# Altium footprint library DDS1.PcbLib: 136 footprints (part 9 of 9)
Each footprint in its own frame and in the unit in brackets; x right, y up, seen from the top. Pads: shape width x height; smd on the part's side, far side on the other; paste and mask are expansions set on the pad; w line width, h text height; cw(c..) or ccw(c..) is an arc to the next point about the centre after c.
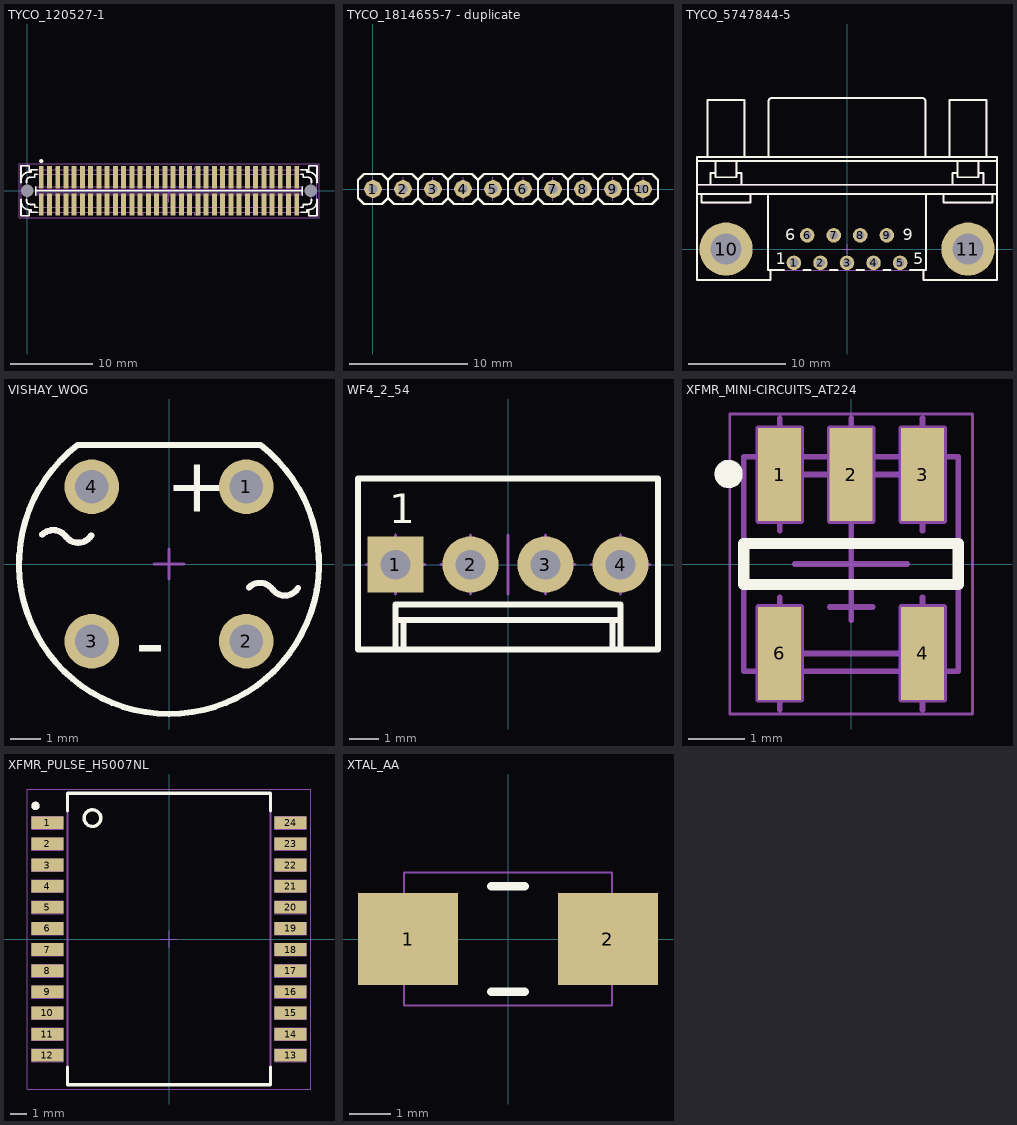
[diagram p8: the footprints below, top view; thin cyan lines are the x and y axes]

## TYCO_120527-1 [mm] "1mm Centerline, FH (IEEE 1386) Surface Mount, Stacking Board-to-Board Male Connectors"
height 8.45
pads (66):
  rect 0.6x2.7 smd: 1(1.7,1.65) 2(1.7,-1.65) 3(2.7,1.65) 4(2.7,-1.65) 5(3.7,1.65) 6(3.7,-1.65) 7(4.7,1.65) 8(4.7,-1.65) 9(5.7,1.65) 10(5.7,-1.65) 11(6.7,1.65) 12(6.7,-1.65) 13(7.7,1.65) 14(7.7,-1.65) 15(8.7,1.65) 16(8.7,-1.65) 17(9.7,1.65) 18(9.7,-1.65) 19(10.7,1.65) 20(10.7,-1.65) 21(11.7,1.65) 22(11.7,-1.65) 23(12.7,1.65) 24(12.7,-1.65) 25(13.7,1.65) 26(13.7,-1.65) 27(14.7,1.65) 28(14.7,-1.65) 29(15.7,1.65) 30(15.7,-1.65) 31(16.7,1.65) 32(16.7,-1.65) 33(17.7,1.65) 34(17.7,-1.65) 35(18.7,1.65) 36(18.7,-1.65) 37(19.7,1.65) 38(19.7,-1.65) 39(20.7,1.65) 40(20.7,-1.65) 41(21.7,1.65) 42(21.7,-1.65) 43(22.7,1.65) 44(22.7,-1.65) 45(23.7,1.65) 46(23.7,-1.65) 47(24.7,1.65) 48(24.7,-1.65) 49(25.7,1.65) 50(25.7,-1.65) 51(26.7,1.65) 52(26.7,-1.65) 53(27.7,1.65) 54(27.7,-1.65) 55(28.7,1.65) 56(28.7,-1.65) 57(29.7,1.65) 58(29.7,-1.65) 59(30.7,1.65) 60(30.7,-1.65) 61(31.7,1.65) 62(31.7,-1.65) 63(32.7,1.65) 64(32.7,-1.65)
  round 1 hole 1.5 unplated: 65(0,0) 66(34.4,0)
Top Overlay:
  circle w0.25: c1.7,3.6 r0.125
  lines w0.2: -0.75,-1.275 ccw(c0.25,-1.275) 0.25,-2.275 ; -0.75,-1 -0.75,-3.025 0.25,-3.025 0.25,-2.275 ; -0.75,1 -0.75,3.025 0.25,3.025 0.25,2.275 ; -0.75,1.275 cw(c0.25,1.275) 0.25,2.275 ; -0.09,-1 -0.09,-1.2 ccw(c0.36,-1.2) 0.36,-1.65 0.9,-1.65 0.9,-2 1.2,-2 ; -0.09,1 -0.09,1.2 cw(c0.36,1.2) 0.36,1.65 0.9,1.65 0.9,2 1.2,2 ; 1.05,-0.5 1.05,0.5 ; 1.05,0 33.35,0 ; 1.2,-2.575 0.45,-2.575 0.45,-2.275 0.25,-2.275 ; 1.2,2.575 0.45,2.575 0.45,2.275 0.25,2.275 ; 33.2,-2.575 33.95,-2.575 33.95,-2.275 34.15,-2.275 ; 33.2,-2 33.5,-2 33.5,-1.65 34.04,-1.65 ccw(c34.04,-1.2) 34.49,-1.2 34.49,-1 ; 33.2,2 33.5,2 33.5,1.65 34.04,1.65 cw(c34.04,1.2) 34.49,1.2 34.49,1 ; 33.2,2.575 33.95,2.575 33.95,2.275 34.15,2.275 ; 33.35,-0.5 33.35,0.5 ; 35.15,-1.275 cw(c34.15,-1.275) 34.15,-2.275 ; 35.15,-1 35.15,-3.025 34.15,-3.025 34.15,-2.275 ; 35.15,1 35.15,3.025 34.15,3.025 34.15,2.275 ; 35.15,1.275 ccw(c34.15,1.275) 34.15,2.275
Mechanical 14:
  drawing of 251 lines, arcs and shapes, not listed
Mechanical 15:
  lines w0.05: -1,-3.275 -1,3.275 35.4,3.275 35.4,-3.275 -1,-3.275
3D body "TYCO-AMP_120527-1.stp": height 8.38, standoff -0.73, extent -0.75,-3.025 35.15,3.025

## TYCO_1814655-7 - duplicate [mm] "10 Positions, Pitch 2.54mm, Width 2.54mm, Heigh 4.4mm, SIP Straight Socket"
height 4.4
pads (10):
  round 1.5 hole 0.8: 1(0,0) 2(2.54,0) 3(5.08,0) 4(7.62,0) 5(10.16,0) 6(12.7,0) 7(15.24,0) 8(17.78,0) 9(20.32,0) 10(22.86,0)
Top Overlay:
  lines w0.2: 1.27,-0.77 1.27,0.77 ; 1.27,-0.77 1.77,-1.27 3.31,-1.27 3.81,-0.77 ; 1.27,-0.77 0.77,-1.27 -0.77,-1.27 -1.27,-0.77 -1.27,0.77 -0.77,1.27 0.77,1.27 1.27,0.77 ; 1.27,0.77 1.77,1.27 3.31,1.27 3.81,0.77 ; 3.81,-0.77 3.81,0.77 ; 3.81,-0.77 4.31,-1.27 5.85,-1.27 6.35,-0.77 ; 3.81,0.77 4.31,1.27 5.85,1.27 6.35,0.77 ; 6.35,-0.77 6.35,0.77 ; 6.35,-0.77 6.85,-1.27 8.39,-1.27 8.89,-0.77 ; 6.35,0.77 6.85,1.27 8.39,1.27 8.89,0.77 ; 8.89,-0.77 8.89,0.77 ; 8.89,-0.77 9.39,-1.27 10.93,-1.27 11.43,-0.77 ; 8.89,0.77 9.39,1.27 10.93,1.27 11.43,0.77 ; 11.43,-0.77 11.43,0.77 ; 11.43,-0.77 11.93,-1.27 13.47,-1.27 13.97,-0.77 ; 11.43,0.77 11.93,1.27 13.47,1.27 13.97,0.77 ; 13.97,-0.77 13.97,0.77 ; 13.97,-0.77 14.47,-1.27 16.01,-1.27 16.51,-0.77 ; 13.97,0.77 14.47,1.27 16.01,1.27 16.51,0.77 ; 16.51,-0.77 16.51,0.77 ; 16.51,-0.77 17.01,-1.27 18.55,-1.27 19.05,-0.77 ; 16.51,0.77 17.01,1.27 18.55,1.27 19.05,0.77 ; 19.05,-0.77 19.05,0.77 ; 19.05,-0.77 19.55,-1.27 21.09,-1.27 21.59,-0.77 ; 19.05,0.77 19.55,1.27 21.09,1.27 21.59,0.77 ; 21.59,-0.77 21.59,0.77 ; 21.59,-0.77 22.09,-1.27 23.63,-1.27 24.13,-0.77 24.13,0.77 23.63,1.27 22.09,1.27 21.59,0.77
Mechanical 8:
  lines w0.1: -1,0 0,0 ; 0,-1 0,0 ; 0,1 0,0 ; 1,0 0,0 ; 1.54,0 2.54,0 ; 2.54,-1 2.54,0 ; 2.54,1 2.54,0 ; 3.54,0 2.54,0 ; 4.08,0 5.08,0 ; 5.08,-1 5.08,0 ; 5.08,1 5.08,0 ; 6.08,0 5.08,0 ; 6.62,0 7.62,0 ; 7.62,-1 7.62,0 ; 7.62,1 7.62,0 ; 8.62,0 7.62,0 ; 9.16,0 10.16,0 ; 10.16,-1 10.16,0 ; 10.16,1 10.16,0 ; 11.16,0 10.16,0 ; 11.7,0 12.7,0 ; 12.7,-1 12.7,0 ; 12.7,1 12.7,0 ; 13.7,0 12.7,0 ; 14.24,0 15.24,0 ; 15.24,-1 15.24,0 ; 15.24,1 15.24,0 ; 16.24,0 15.24,0 ; 16.78,0 17.78,0 ; 17.78,-1 17.78,0 ; 17.78,1 17.78,0 ; 18.78,0 17.78,0 ; 19.32,0 20.32,0 ; 20.32,-1 20.32,0 ; 20.32,1 20.32,0 ; 21.32,0 20.32,0 ; 21.86,0 22.86,0 ; 22.86,-1 22.86,0 ; 22.86,1 22.86,0 ; 23.86,0 22.86,0
Mechanical 14:
  lines w0.1: 1.27,-0.77 1.27,0.77 ; 1.27,-0.77 1.77,-1.27 3.31,-1.27 3.81,-0.77 ; 1.27,-0.77 0.77,-1.27 -0.77,-1.27 -1.27,-0.77 -1.27,0.77 -0.77,1.27 0.77,1.27 1.27,0.77 ; 1.27,0.77 1.77,1.27 3.31,1.27 3.81,0.77 ; 3.81,-0.77 3.81,0.77 ; 3.81,-0.77 4.31,-1.27 5.85,-1.27 6.35,-0.77 ; 3.81,0.77 4.31,1.27 5.85,1.27 6.35,0.77 ; 6.35,-0.77 6.35,0.77 ; 6.35,-0.77 6.85,-1.27 8.39,-1.27 8.89,-0.77 ; 6.35,0.77 6.85,1.27 8.39,1.27 8.89,0.77 ; 8.89,-0.77 8.89,0.77 ; 8.89,-0.77 9.39,-1.27 10.93,-1.27 11.43,-0.77 ; 8.89,0.77 9.39,1.27 10.93,1.27 11.43,0.77 ; 11.43,-0.77 11.43,0.77 ; 11.43,-0.77 11.93,-1.27 13.47,-1.27 13.97,-0.77 ; 11.43,0.77 11.93,1.27 13.47,1.27 13.97,0.77 ; 13.97,-0.77 13.97,0.77 ; 13.97,-0.77 14.47,-1.27 16.01,-1.27 16.51,-0.77 ; 13.97,0.77 14.47,1.27 16.01,1.27 16.51,0.77 ; 16.51,-0.77 16.51,0.77 ; 16.51,-0.77 17.01,-1.27 18.55,-1.27 19.05,-0.77 ; 16.51,0.77 17.01,1.27 18.55,1.27 19.05,0.77 ; 19.05,-0.77 19.05,0.77 ; 19.05,-0.77 19.55,-1.27 21.09,-1.27 21.59,-0.77 ; 19.05,0.77 19.55,1.27 21.09,1.27 21.59,0.77 ; 21.59,-0.77 21.59,0.77 ; 21.59,-0.77 22.09,-1.27 23.63,-1.27 24.13,-0.77 24.13,0.77 23.63,1.27 22.09,1.27 21.59,0.77
3D body "TYCO_1814655-7.stp": height 4.4, standoff -2.9, extent -1.27,-1.27 24.13,1.27

## TYCO_5747844-5 [mm] "Right Angle 9 Female Contacts D-SUB Connector With PCB Mount Retention , Grounding Straps, and Fixed UNC 4-40 Female Screwlocks"
height 12.92
pads (11):
  round 1.5 hole 0.9: 1(-5.48,-1.422) 2(-2.74,-1.422) 3(0,-1.422) 4(2.74,-1.422) 5(5.48,-1.422) 6(-4.11,1.422) 7(-1.37,1.422) 8(1.37,1.422) 9(4.11,1.422)
  round 5.5 hole 3.2 unplated: 10(-12.495,0)
  round 5.5 hole 3.2: 11(12.495,0)
Top Overlay:
  lines w0.2: -15.494,5.679 15.494,5.679 ; -15.494,6.645 15.494,6.645 ; -15.494,9.108 15.494,9.108 ; -15.011,5.679 -15.011,4.79 -9.982,4.79 -9.982,5.679 ; -14.402,9.525 -14.402,15.408 -10.592,15.408 -10.592,9.525 ; -14.084,6.645 -14.084,7.838 -13.576,7.838 ; -13.576,9.108 -13.576,7.422 -11.417,7.422 -11.417,9.108 ; -11.417,7.838 -10.909,7.838 -10.909,6.645 ; -8.153,5.679 -8.153,-2.169 -6.482,-2.169 ; -8.1,9.525 -8.1,15.296 cw(c-7.8,15.296) -7.8,15.596 7.8,15.596 cw(c7.8,15.296) 8.1,15.296 8.1,9.525 ; -7.899,-2.169 -7.899,-3.185 -15.494,-3.185 -15.494,9.525 15.494,9.525 15.494,-3.185 7.899,-3.185 7.899,-2.169 ; -4.478,-2.169 -3.742,-2.169 ; -1.738,-2.169 -1.002,-2.169 ; 1.002,-2.169 1.738,-2.169 ; 3.742,-2.169 4.478,-2.169 ; 6.482,-2.169 8.153,-2.169 8.153,5.679 ; 9.982,5.679 9.982,4.79 15.011,4.79 15.011,5.679 ; 10.592,9.525 10.592,15.408 14.402,15.408 14.402,9.525 ; 10.909,6.645 10.909,7.838 11.417,7.838 ; 11.417,9.108 11.417,7.422 13.576,7.422 13.576,9.108 ; 13.576,7.838 14.084,7.838 14.084,6.645
  text "9" at 5.75,0.925 h1.2
  text "1" at -7.35,-1.575 h1.2
  text "5" at 6.85,-1.575 h1.2
  text "6" at -6.375,0.925 h1.2
Mechanical 8:
  circle w0.1: c5.48,-1.422 r0.5
  circle w0.1: c4.11,1.422 r0.5
  circle w0.1: c-5.48,-1.422 r0.5
  circle w0.1: c-4.11,1.422 r0.5
  circle w0.1: c12.495,0 r1.6
  circle w0.1: c-12.495,0 r1.6
  lines w0.1: -12.995,0 -12.495,0 ; -12.495,-0.5 -12.495,0 ; -12.495,0.5 -12.495,0 ; -11.995,0 -12.495,0 ; -5.98,-1.422 -5.48,-1.422 ; -5.48,-1.922 -5.48,-1.422 ; -5.48,-0.922 -5.48,-1.422 ; -4.98,-1.422 -5.48,-1.422 ; -4.61,1.422 -4.11,1.422 ; -4.11,0.922 -4.11,1.422 ; -4.11,1.922 -4.11,1.422 ; -3.61,1.422 -4.11,1.422 ; -3.24,-1.422 -2.74,-1.422 ; -2.74,-1.922 -2.74,-1.422 ; -2.74,-0.922 -2.74,-1.422 ; -2.24,-1.422 -2.74,-1.422 ; -1.87,1.422 -1.37,1.422 ; -1.37,0.922 -1.37,1.422 ; -1.37,1.922 -1.37,1.422 ; -0.87,1.422 -1.37,1.422 ; -0.5,-1.422 0,-1.422 ; -0.5,0 0,0 ; 0,-1.922 0,-1.422 ; 0,-0.922 0,-1.422 ; 0,-0.5 0,0 ; 0,0.5 0,0 ; 0.5,-1.422 0,-1.422 ; 0.5,0 0,0 ; 0.87,1.422 1.37,1.422 ; 1.37,0.922 1.37,1.422 ; 1.37,1.922 1.37,1.422 ; 1.87,1.422 1.37,1.422 ; 2.24,-1.422 2.74,-1.422 ; 2.74,-1.922 2.74,-1.422 ; 2.74,-0.922 2.74,-1.422 ; 3.24,-1.422 2.74,-1.422 ; 3.61,1.422 4.11,1.422 ; 4.11,0.922 4.11,1.422 ; 4.11,1.922 4.11,1.422 ; 4.61,1.422 4.11,1.422 ; 4.98,-1.422 5.48,-1.422 ; 5.48,-1.922 5.48,-1.422 ; 5.48,-0.922 5.48,-1.422 ; 5.98,-1.422 5.48,-1.422 ; 11.995,0 12.495,0 ; 12.495,-0.5 12.495,0 ; 12.495,0.5 12.495,0 ; 12.995,0 12.495,0
Mechanical 14:
  circle w0.1: c12.497,0 r1.549
  circle w0.1: c12.497,0 r1.854
  circle w0.1: c-12.497,0 r1.549
  circle w0.1: c-12.497,0 r1.854
  lines w0.1: -15.494,5.679 15.494,5.679 ; -15.494,6.645 15.494,6.645 ; -15.494,9.108 15.494,9.108 ; -15.011,5.679 -15.011,4.79 -9.982,4.79 -9.982,5.679 ; -14.402,9.525 -14.402,15.408 -10.592,15.408 -10.592,9.525 ; -14.084,6.645 -14.084,7.838 -13.576,7.838 ; -13.576,9.108 -13.576,7.422 -11.417,7.422 -11.417,9.108 ; -11.417,7.838 -10.909,7.838 -10.909,6.645 ; -8.153,5.679 -8.153,-2.169 8.153,-2.169 8.153,5.679 ; -8.1,9.525 -8.1,15.296 cw(c-7.8,15.296) -7.8,15.596 7.8,15.596 cw(c7.8,15.296) 8.1,15.296 8.1,9.525 ; -7.899,-2.169 -7.899,-3.185 -15.494,-3.185 -15.494,9.525 15.494,9.525 15.494,-3.185 7.899,-3.185 7.899,-2.169 ; 9.982,5.679 9.982,4.79 15.011,4.79 15.011,5.679 ; 10.592,9.525 10.592,15.408 14.402,15.408 14.402,9.525 ; 10.909,6.645 10.909,7.838 11.417,7.838 ; 11.417,9.108 11.417,7.422 13.576,7.422 13.576,9.108 ; 13.576,7.838 14.084,7.838 14.084,6.645
  text "6" at -6.375,0.925 h1.2
  text "5" at 6.85,-1.575 h1.2
  text "1" at -7.35,-1.575 h1.2
  text "9" at 5.75,0.925 h1.2
3D body "TYCO_5747844-5.stp": height 12.55, standoff -3.26, extent -15.494,-3.185 15.494,15.71

## VISHAY_WOG [mm] "Bridge Rectifier, Body 9.35m x 8.33mm, VISHAY Case Type WOG"
height 5.6
pads (4):
  round 1.8 hole 1.1: 1(2.54,2.54) 2(2.54,-2.54) 3(-2.54,-2.54) 4(-2.54,2.54)
Top Overlay:
  lines w0.2: -4.165,0.963 cw(c-3.805,0.616) -3.39,0.895 ; -3.365,0.875 ccw(c-2.984,1.198) -2.555,0.941 ; 2.625,-0.772 cw(c2.985,-1.119) 3.4,-0.84 ; 3.425,-0.86 ccw(c3.806,-0.537) 4.235,-0.794 ; -3.003,3.91 ccw(c0,0) 3.003,3.91 -3.003,3.91
  text "+" at -0.1,1.72 h1.8
  text "-" at -1.105,-3.52 h2
Mechanical 8:
  lines w0.1: -3.04,-2.54 -2.54,-2.54 ; -3.04,2.54 -2.54,2.54 ; -2.54,-3.04 -2.54,-2.54 ; -2.54,-2.04 -2.54,-2.54 ; -2.54,2.04 -2.54,2.54 ; -2.54,3.04 -2.54,2.54 ; -2.04,-2.54 -2.54,-2.54 ; -2.04,2.54 -2.54,2.54 ; -0.5,0 0,0 ; 0,-0.5 0,0 ; 0,0.5 0,0 ; 0.5,0 0,0 ; 2.04,-2.54 2.54,-2.54 ; 2.04,2.54 2.54,2.54 ; 2.54,-3.04 2.54,-2.54 ; 2.54,-2.04 2.54,-2.54 ; 2.54,2.04 2.54,2.54 ; 2.54,3.04 2.54,2.54 ; 3.04,-2.54 2.54,-2.54 ; 3.04,2.54 2.54,2.54
Mechanical 14:
  lines w0.1: -3.003,3.91 ccw(c0,0) 3.003,3.91 -3.003,3.91
  lines w0.2: -4.165,0.963 cw(c-3.805,0.616) -3.39,0.895 ; -3.365,0.875 ccw(c-2.984,1.198) -2.555,0.941 ; 2.625,-0.772 cw(c2.985,-1.119) 3.4,-0.84 ; 3.425,-0.86 ccw(c3.806,-0.537) 4.235,-0.794
  text "+" at -0.1,1.72 h1.8
  text "-" at -1.105,-3.52 h2
3D body "VISHAY_WOG.stp": height 13.5, standoff -3.2, extent -4.928,-4.93 4.928,3.91

## WF4_2_54 [mm] "2.54mm (.100\") Pitch KK® Header, Single Row, Vertical, 4 Circuits"
height 11.7
pads (4):
  rect 1.9x1.9 hole 1: 1(-3.81,0)
  round 1.9 hole 1: 2(-1.27,0) 3(1.27,0) 4(3.81,0)
Top Overlay:
  lines w0.2: -3.81,-2.883 -3.81,-1.353 3.81,-1.353 3.81,-2.883 ; -3.81,-1.883 3.81,-1.883 ; -3.537,-2.883 -3.537,-1.883 ; 3.537,-2.883 3.537,-1.883 ; -5.08,-2.883 -5.08,2.918 5.08,2.918 5.08,-2.883 -5.08,-2.883
  text "1" at -4.02,1.395 h1
Mechanical 8:
  lines w0.1: -4.81,0 -3.81,0 ; -3.81,-1 -3.81,0 ; -3.81,1 -3.81,0 ; -2.81,0 -3.81,0 ; -2.27,0 -1.27,0 ; -1.27,-1 -1.27,0 ; -1.27,1 -1.27,0 ; 0,-1 0,0 0,1 ; 1.27,-1 1.27,0 ; 1.27,1 1.27,0 ; 2.27,0 1.27,0 ; 2.81,0 3.81,0 ; 3.81,-1 3.81,0 ; 3.81,1 3.81,0 ; 4.81,0 3.81,0
Mechanical 14:
  lines w0.1: -3.81,-2.883 -3.81,-1.353 3.81,-1.353 3.81,-2.883 ; -3.81,-1.883 3.81,-1.883 ; -3.537,-2.883 -3.537,-1.883 ; 3.537,-2.883 3.537,-1.883 ; -5.08,-2.883 -5.08,2.918 5.08,2.918 5.08,-2.883 -5.08,-2.883 ; -4.13,-0.318 -3.49,-0.318 -3.49,0.318 -4.13,0.318 -4.13,-0.318 ; -1.59,-0.318 -0.95,-0.318 -0.95,0.318 -1.59,0.318 -1.59,-0.318 ; 0.95,-0.318 1.59,-0.318 1.59,0.318 0.95,0.318 0.95,-0.318 ; 3.49,-0.318 4.13,-0.318 4.13,0.318 3.49,0.318 3.49,-0.318
  text "1" at -4.02,1.395 h1
3D body "MOLEX_22-27-2041.stp": height 11.7, standoff -3.56, extent -5.08,-2.883 5.08,2.917

## XFMR_MINI-CIRCUITS_AT224 [mm] "MINI-CIRCUITS RF Transformer, Case AT224 - Body 3.81X3.81mm"
height 3.81
pads (5):
  rect 0.76x1.65 smd: 1(-1.27,1.59) 2(0,1.59) 3(1.27,1.59) 4(1.27,-1.59) 6(-1.27,-1.59)
Top Overlay:
  circle w0.25: c-2.175,1.6 r0.125
  lines w0.2: -1.905,-0.365 -1.905,0.365 1.905,0.365 1.905,-0.365 -1.905,-0.365
Mechanical 8:
  lines w0.1: -1.27,-2.59 -1.27,-1.59 ; -1.27,-0.59 -1.27,-1.59 ; -1.27,0.59 -1.27,1.59 ; -1.27,2.59 -1.27,1.59 ; -1,0 0,0 ; -0.38,-0.765 0.38,-0.765 ; 0,-1 0,0 ; 0,0.59 0,1.59 0,2.59 ; 0,1 0,0 ; 1,0 0,0 ; 1.27,-2.59 1.27,-1.59 1.27,-0.59 ; 1.27,0.59 1.27,1.59 1.27,2.59 ; 1.65,-1.59 -1.27,-1.59 ; 1.65,1.59 -1.27,1.59 ; -1.65,-2.415 -1.65,-0.765 -0.89,-0.765 -0.89,-2.415 -1.65,-2.415 ; -1.65,0.765 -1.65,2.415 -0.89,2.415 -0.89,0.765 -1.65,0.765 ; -0.38,0.765 -0.38,2.415 0.38,2.415 0.38,0.765 -0.38,0.765 ; 0.89,-2.415 0.89,-0.765 1.65,-0.765 1.65,-2.415 0.89,-2.415 ; 0.89,0.765 0.89,2.415 1.65,2.415 1.65,0.765 0.89,0.765
Mechanical 14:
  circle w0.25: c-2.175,1.6 r0.125
  lines w0.1: -1.625,-1.905 -1.625,-1.145 -0.915,-1.145 -0.915,-1.905 ; -1.625,1.905 -1.625,1.145 -0.915,1.145 -0.915,1.905 ; -0.355,1.905 -0.355,1.145 0.355,1.145 0.355,1.905 ; 0.915,-1.905 0.915,-1.145 1.625,-1.145 1.625,-1.905 ; 0.915,1.905 0.915,1.145 1.625,1.145 1.625,1.905 ; -1.905,-1.905 -1.905,1.905 1.905,1.905 1.905,-1.905 -1.905,-1.905
Mechanical 15:
  lines w0.05: -2.155,-2.665 -2.155,2.665 2.155,2.665 2.155,-2.665 -2.155,-2.665
3D body "XFMR_MINI-CIRCUITS_AT224.stp": height 3.81, standoff 0, extent -1.905,-1.905 1.905,1.905

## XFMR_PULSE_H5007NL [mm] "10/100BASE-T Magnetics Modules, Body 12.2 x 17.53mm"
height 5.72
pads (24):
  rect 1.905x0.76 smd: 1(-7.302,6.985) 2(-7.302,5.715) 3(-7.302,4.445) 4(-7.302,3.175) 5(-7.302,1.905) 6(-7.302,0.635) 7(-7.302,-0.635) 8(-7.302,-1.905) 9(-7.302,-3.175) 10(-7.302,-4.445) 11(-7.302,-5.715) 12(-7.302,-6.985) 13(7.302,-6.985) 14(7.302,-5.715) 15(7.302,-4.445) 16(7.302,-3.175) 17(7.302,-1.905) 18(7.302,-0.635) 19(7.302,0.635) 20(7.302,1.905) 21(7.302,3.175) 22(7.302,4.445) 23(7.302,5.715) 24(7.302,6.985)
Top Overlay:
  circle w0.25: c-8.025,8 r0.125
  circle w0.2: c-4.6,7.265 r0.5
  lines w0.2: -6.1,-7.715 -6.1,-8.765 6.1,-8.765 6.1,-7.715 ; -6.1,7.715 -6.1,8.765 6.1,8.765 6.1,7.715
Mechanical 8:
  lines w0.05: -0.5,0 0,0 ; 0,-0.5 0,0 ; 0,0.5 0,0 ; 0.5,0 0,0 ; -8.255,-7.365 -8.255,-6.605 ; -8.255,-7.365 -7.302,-6.985 -8.255,-6.605 ; -8.255,-7.365 -6.35,-7.365 -6.35,-6.605 -8.255,-6.605 ; -8.255,-6.095 -8.255,-5.335 ; -8.255,-6.095 -7.302,-5.715 -8.255,-5.335 ; -8.255,-6.095 -6.35,-6.095 -6.35,-5.335 -8.255,-5.335 ; -8.255,-4.825 -8.255,-4.065 ; -8.255,-4.825 -7.302,-4.445 -8.255,-4.065 ; -8.255,-4.825 -6.35,-4.825 -6.35,-4.065 -8.255,-4.065 ; -8.255,-3.555 -8.255,-2.795 ; -8.255,-3.555 -7.302,-3.175 -8.255,-2.795 ; -8.255,-3.555 -6.35,-3.555 -6.35,-2.795 -8.255,-2.795 ; -8.255,-2.285 -8.255,-1.525 ; -8.255,-2.285 -7.302,-1.905 -8.255,-1.525 ; -8.255,-2.285 -6.35,-2.285 -6.35,-1.525 -8.255,-1.525 ; -8.255,-1.015 -8.255,-0.255 ; -8.255,-1.015 -7.302,-0.635 -8.255,-0.255 ; -8.255,-1.015 -6.35,-1.015 -6.35,-0.255 -8.255,-0.255 ; -8.255,0.255 -8.255,1.015 ; -8.255,0.255 -7.302,0.635 -8.255,1.015 ; -8.255,0.255 -6.35,0.255 -6.35,1.015 -8.255,1.015 ; -8.255,1.525 -8.255,2.285 ; -8.255,1.525 -7.302,1.905 -8.255,2.285 ; -8.255,1.525 -6.35,1.525 -6.35,2.285 -8.255,2.285 ; -8.255,2.795 -8.255,3.555 ; -8.255,2.795 -7.302,3.175 -8.255,3.555 ; -8.255,2.795 -6.35,2.795 -6.35,3.555 -8.255,3.555 ; -8.255,4.065 -8.255,4.825 ; -8.255,4.065 -7.302,4.445 -8.255,4.825 ; -8.255,4.065 -6.35,4.065 -6.35,4.825 -8.255,4.825 ; -8.255,5.335 -8.255,6.095 ; -8.255,5.335 -7.302,5.715 -8.255,6.095 ; -8.255,5.335 -6.35,5.335 -6.35,6.095 -8.255,6.095 ; -8.255,6.605 -8.255,7.365 ; -8.255,6.605 -7.302,6.985 -8.255,7.365 ; -8.255,6.605 -6.35,6.605 -6.35,7.365 -8.255,7.365 ; 8.255,-7.365 8.255,-6.605 ; 8.255,-7.365 6.35,-7.365 6.35,-6.605 8.255,-6.605 ; 8.255,-7.365 7.302,-6.985 8.255,-6.605 ; 8.255,-6.095 8.255,-5.335 ; 8.255,-6.095 6.35,-6.095 6.35,-5.335 8.255,-5.335 ; 8.255,-6.095 7.302,-5.715 8.255,-5.335 ; 8.255,-4.825 8.255,-4.065 ; 8.255,-4.825 6.35,-4.825 6.35,-4.065 8.255,-4.065 ; 8.255,-4.825 7.302,-4.445 8.255,-4.065 ; 8.255,-3.555 8.255,-2.795 ; 8.255,-3.555 6.35,-3.555 6.35,-2.795 8.255,-2.795 ; 8.255,-3.555 7.302,-3.175 8.255,-2.795 ; 8.255,-2.285 8.255,-1.525 ; 8.255,-2.285 6.35,-2.285 6.35,-1.525 8.255,-1.525 ; 8.255,-2.285 7.302,-1.905 8.255,-1.525 ; 8.255,-1.015 8.255,-0.255 ; 8.255,-1.015 6.35,-1.015 6.35,-0.255 8.255,-0.255 ; 8.255,-1.015 7.302,-0.635 8.255,-0.255 ; 8.255,0.255 8.255,1.015 ; 8.255,0.255 6.35,0.255 6.35,1.015 8.255,1.015 ; 8.255,0.255 7.302,0.635 8.255,1.015 ; 8.255,1.525 8.255,2.285 ; 8.255,1.525 6.35,1.525 6.35,2.285 8.255,2.285 ; 8.255,1.525 7.302,1.905 8.255,2.285 ; 8.255,2.795 8.255,3.555 ; 8.255,2.795 6.35,2.795 6.35,3.555 8.255,3.555 ; 8.255,2.795 7.302,3.175 8.255,3.555 ; 8.255,4.065 8.255,4.825 ; 8.255,4.065 6.35,4.065 6.35,4.825 8.255,4.825 ; 8.255,4.065 7.302,4.445 8.255,4.825 ; 8.255,5.335 8.255,6.095 ; 8.255,5.335 6.35,5.335 6.35,6.095 8.255,6.095 ; 8.255,5.335 7.302,5.715 8.255,6.095 ; 8.255,6.605 8.255,7.365 ; 8.255,6.605 6.35,6.605 6.35,7.365 8.255,7.365 ; 8.255,6.605 7.302,6.985 8.255,7.365
Mechanical 14:
  circle w0.25: c-8.025,8 r0.125
  circle w0.1: c-4.6,7.265 r0.5
  lines w0.1: -6.1,-8.765 6.1,-8.765 6.1,8.765 -6.1,8.765 -6.1,-8.765
Mechanical 15:
  lines w0.05: -8.505,-9.015 8.505,-9.015 8.505,9.015 -8.505,9.015 -8.505,-9.015
3D body "XFMR_PULSE_H5007NL.stp": height 5.72, standoff 0, extent -8,-8.765 8,8.765

## XTAL_AA [mm] "Resonator 5x3.mm 2pin"
height 1.3
pads (2):
  rect 2.4x2.2 smd: 1(-2.4,0) 2(2.4,0)
Top Overlay:
  lines w0.203: -0.4,-1.27 0.4,-1.27 ; -0.4,1.27 0.4,1.27
Mechanical 13:
  lines w0.051: -2.5,-1.6 2.5,-1.6 2.5,1.6 -2.5,1.6 -2.5,-1.6
3D body: height 1.3, standoff 0, extent -2.5,-1.6 2.5,1.6